# Altium footprint library all_kalex_Library.PcbLib: 234 footprints (part 14 of 15)
Each footprint in its own frame and in the unit in brackets; x right, y up, seen from the top. Pads: shape width x height; smd on the part's side, far side on the other; paste and mask are expansions set on the pad; w line width, h text height; cw(c..) or ccw(c..) is an arc to the next point about the centre after c.
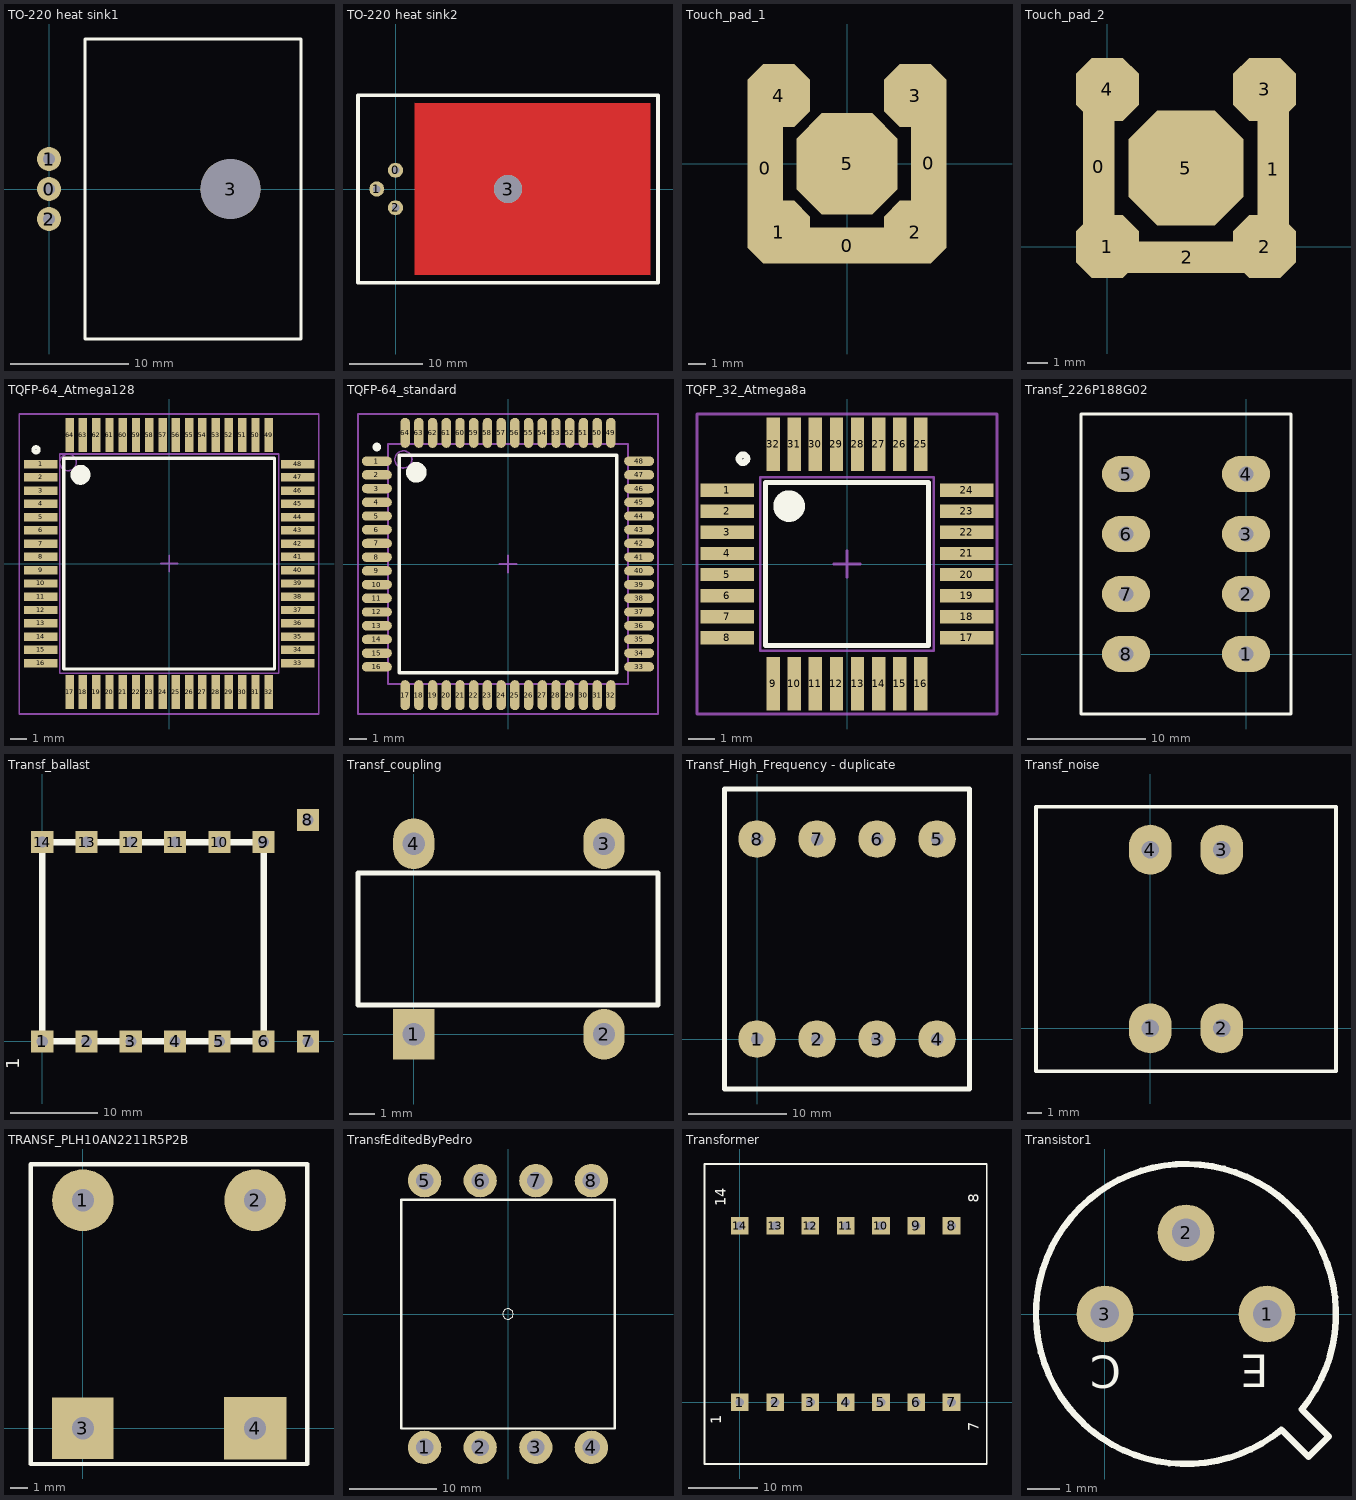
[diagram p13: the footprints below, top view; thin cyan lines are the x and y axes]

## TO-220 heat sink1 [mil]
pads (4):
  round 80 hole 40: 0(0,0) 1(0,100) 2(0,-100)
  round 200 hole 200 unplated: 3(605,0)
Top Overlay:
  lines w10: 120,-500 840,-500 840,500 120,500 120,-500

## TO-220 heat sink2 [mil]
pads (4):
  round 80 hole 40: 0(0,100) 1(-100,0) 2(0,-100)
  round 150 hole 150 unplated: 3(600,0)
Top Layer:
  region: 100,460 100,-460 1360,-460 1360,460
Top Overlay:
  lines w20: -200,-500 -200,500 1400,500 1400,-500 -200,-500

## Touch_pad_1 [mil]
pads (8):
  rect 80x304 smd: 0(-182,-10) 0(182,1)
  rect 304x80 smd: 0(1,-182)
  oct 140x140 smd: 1(-152,-152) 2(152,-152) 3(152,152) 4(-152,152)
  oct 226x226 smd: 5(0,0)

## Touch_pad_2 [mm]
pads (8):
  rect 1.5x6 smd: 0(-0.4,3.8) 1(7.9,3.7)
  oct 3x3 smd: 1(0,0) 2(7.5,0) 3(7.5,7.5) 4(0,7.5)
  rect 6x1.5 smd: 2(3.8,-0.5)
  oct 5.5x5.5 smd: 5(3.75,3.75)

## TQFP-64_Atmega128 [mil] "Thin QFP, 64-Leads, Body 14x14mm, Pitch 0.8mm, IPC Medium Density"
pads (64):
  rect 80x20 smd: 1(-305,236.22) 2(-305,204.72) 3(-305,173.23) 4(-305,141.73) 5(-305,110.24) 6(-305,78.74) 7(-305,47.24) 8(-305,15.75) 9(-305,-15.75) 10(-305,-47.24) 11(-305,-78.74) 12(-305,-110.24) 13(-305,-141.73) 14(-305,-173.23) 15(-305,-204.72) 16(-305,-236.22) 33(305,-236.22) 34(305,-204.72) 35(305,-173.23) 36(305,-141.73) 37(305,-110.24) 38(305,-78.74) 39(305,-47.24) 40(305,-15.75) 41(305,15.75) 42(305,47.24) 43(305,78.74) 44(305,110.24) 45(305,141.73) 46(305,173.23) 47(305,204.72) 48(305,236.22)
  rect 20x80 smd: 17(-236.22,-305) 18(-204.72,-305) 19(-173.23,-305) 20(-141.73,-305) 21(-110.24,-305) 22(-78.74,-305) 23(-47.24,-305) 24(-15.75,-305) 25(15.75,-305) 26(47.24,-305) 27(78.74,-305) 28(110.24,-305) 29(141.73,-305) 30(173.23,-305) 31(204.72,-305) 32(236.22,-305) 49(236.22,305) 50(204.72,305) 51(173.23,305) 52(141.73,305) 53(110.24,305) 54(78.74,305) 55(47.24,305) 56(15.75,305) 57(-15.75,305) 58(-47.24,305) 59(-78.74,305) 60(-110.24,305) 61(-141.73,305) 62(-173.23,305) 63(-204.72,305) 64(-236.22,305)
Top Overlay:
  circle w23.62: c-210.63,210.63 r11.81
  circle w9.84: c-316,270 r6
  lines w7.87: -250,-250 250,-250 250,250 -250,250 -250,-250
Mechanical 13:
  circle w3.94: c-240.16,240.16 r19.68
  lines w3.94: -260,-260 260,-260 260,260 -260,260 -260,-260
Mechanical 15:
  lines w3.94: -19.68,0 19.68,0 ; 0,-19.68 0,19.68 ; -356,-357 355,-357 355,355 -356,355 -356,-357
3D body: height 104.33, standoff 0, extent -255,-260 260,260

## TQFP-64_standard [mm] "Thin QFP, 64-Leads, Body 14x14mm, Pitch 0.8mm, IPC Medium Density"
pads (64):
  oval 1.75x0.55 smd: 1(-7.65,6) 2(-7.65,5.2) 3(-7.65,4.4) 4(-7.65,3.6) 5(-7.65,2.8) 6(-7.65,2) 7(-7.65,1.2) 8(-7.65,0.4) 9(-7.65,-0.4) 10(-7.65,-1.2) 11(-7.65,-2) 12(-7.65,-2.8) 13(-7.65,-3.6) 14(-7.65,-4.4) 15(-7.65,-5.2) 16(-7.65,-6) 33(7.65,-6) 34(7.65,-5.2) 35(7.65,-4.4) 36(7.65,-3.6) 37(7.65,-2.8) 38(7.65,-2) 39(7.65,-1.2) 40(7.65,-0.4) 41(7.65,0.4) 42(7.65,1.2) 43(7.65,2) 44(7.65,2.8) 45(7.65,3.6) 46(7.65,4.4) 47(7.65,5.2) 48(7.65,6)
  oval 0.55x1.75 smd: 17(-6,-7.65) 18(-5.2,-7.65) 19(-4.4,-7.65) 20(-3.6,-7.65) 21(-2.8,-7.65) 22(-2,-7.65) 23(-1.2,-7.65) 24(-0.4,-7.65) 25(0.4,-7.65) 26(1.2,-7.65) 27(2,-7.65) 28(2.8,-7.65) 29(3.6,-7.65) 30(4.4,-7.65) 31(5.2,-7.65) 32(6,-7.65) 49(6,7.65) 50(5.2,7.65) 51(4.4,7.65) 52(3.6,7.65) 53(2.8,7.65) 54(2,7.65) 55(1.2,7.65) 56(0.4,7.65) 57(-0.4,7.65) 58(-1.2,7.65) 59(-2,7.65) 60(-2.8,7.65) 61(-3.6,7.65) 62(-4.4,7.65) 63(-5.2,7.65) 64(-6,7.65)
Top Overlay:
  circle w0.25: c-7.65,6.825 r0.125
  circle w0.6: c-5.35,5.35 r0.3
  lines w0.2: -6.35,-6.35 -6.35,6.35 6.35,6.35 6.35,-6.35 -6.35,-6.35
Mechanical 13:
  circle w0.1: c-6.1,6.1 r0.5
  lines w0.1: -7,-7 -7,7 7,7 7,-7 -7,-7
Mechanical 15:
  lines w0.1: -0.5,0 0.5,0 ; 0,-0.5 0,0.5 ; -8.75,-8.75 -8.75,8.75 8.75,8.75 8.75,-8.75 -8.75,-8.75
3D body: height 2.65, standoff 0, extent -6.985,-6.985 6.985,6.985

## TQFP_32_Atmega8a [mil]
pads (32):
  rect 80x20 smd: 1(-179.02,110.24) 2(-179.02,78.74) 3(-179.02,47.24) 4(-179.02,15.75) 5(-179.02,-15.75) 6(-179.02,-47.24) 7(-179.02,-78.74) 8(-179.02,-110.24) 17(179.02,-110.24) 18(179.02,-78.74) 19(179.02,-47.24) 20(179.02,-15.75) 21(179.02,15.75) 22(179.02,47.24) 23(179.02,78.74) 24(179.02,110.24)
  rect 20x80 smd: 9(-110.24,-179.02) 10(-78.74,-179.02) 11(-47.24,-179.02) 12(-15.75,-179.02) 13(15.75,-179.02) 14(47.24,-179.02) 15(78.74,-179.02) 16(110.24,-179.02) 25(110.24,179.02) 26(78.74,179.02) 27(47.24,179.02) 28(15.75,179.02) 29(-15.75,179.02) 30(-47.24,179.02) 31(-78.74,179.02) 32(-110.24,179.02)
Top Overlay:
  circle w9.84: c-155.61,157.48 r6
  circle w23.62: c-86.61,86.61 r11.81
  lines w7.87: -122.05,-122.05 -122.05,122.05 122.05,122.05 122.05,-122.05 -122.05,-122.05
Mechanical 13:
  circle w3.94: c-86.61,86.61 r19.68
  lines w3.94: -129.92,-129.92 -129.92,129.92 129.92,129.92 129.92,-129.92 -129.92,-129.92
Mechanical 15:
  lines w3.94: -19.68,0 19.68,0 ; 0,-19.68 0,19.68 ; -224.41,-224.41 -224.41,224.41 224.41,224.41 224.41,-224.41 -224.41,-224.41
3D body: height 104.33, standoff 0, extent -122.05,-122.05 122.05,122.05

## Transf_226P188G02 [mil]
pads (8):
  oval 160x120 hole 50: 1(0,0) 2(0,200) 3(0,400) 4(0,600) 5(-400,600) 6(-400,400) 7(-400,200) 8(-400,0)
Top Overlay:
  lines w10: -550,-200 150,-200 150,800 -550,800 -550,-200
Bottom Overlay:
  text "1" at 100,-90 h60
  text "2" at 115,105 h60
  text "3" at 115,300 h60
  text "4" at 115,505 h60
  text "8" at -475,-120 h60
  text "7" at -475,90 h60
  text "6" at -475,305 h60
  text "5" at -470,495 h60

## Transf_ballast [mil]
pads (14):
  rect 100x100 hole 50: 1(0,0) 2(200,0) 3(400,0) 4(600,0) 5(800,0) 6(1000,0) 7(1200,0) 8(1200,1000) 9(1000,900) 10(800,900) 11(600,900) 12(400,900) 13(200,900) 14(0,900)
Top Overlay:
  lines w30: 0,0 0,900 1000,900 1000,0 0,0
  text "1" at -105,-125 h60

## Transf_coupling [mil]
pads (4):
  rect 65x80 hole 35: 1(0,0)
  oval 65x80 hole 35: 2(300,0) 3(300,300) 4(0,300)
Top Overlay:
  lines w7.87: -87.8,45.67 -87.8,254.33 385,254.33 385,45.67 -87.8,45.67

## Transf_High_Frequency - duplicate [mil]
pads (8):
  round 150 hole 50: 1(0,0) 2(240,0) 3(480,0) 4(720,0) 5(720,800) 6(480,800) 7(240,800) 8(0,800)
Top Overlay:
  lines w20: -130,-200 -130,1000 850,1000 850,-200 -130,-200

## Transf_noise [mil]
pads (4):
  oval 120x140 hole 50: 1(0,0) 2(200,0) 3(200,500) 4(0,500)
Top Overlay:
  lines w10: -320,-120 520,-120 520,620 -320,620 -320,-120

## TRANSF_PLH10AN2211R5P2B [mil]
pads (4):
  round 137.8 hole 50: 1(0,510) 2(385,510)
  rect 137.8x137.8 hole 50: 3(0,0)
  rect 140x140 hole 50: 4(385,0)
Top Overlay:
  lines w10: 502,590 -117,590 -117,-80 502,-80 502,591

## TransfEditedByPedro [mil] "6Pins1.2x0.25"
pads (8):
  round 150 hole 80: 1(-375,-600) 2(-125,-600) 3(125,-600) 4(375,-600) 5(-375,600) 6(-125,600) 7(125,600) 8(375,600)
Top Overlay:
  circle w3: c0,0 r23.26
  lines w10: -480,-515 480,-515 480,514 -480,514 -480,-515

## Transformer [mil]
pads (14):
  rect 100x100 hole 50: 1(0,0) 2(200,0) 3(400,0) 4(600,0) 5(800,0) 6(1000,0) 7(1200,0) 8(1200,1000) 9(1000,1000) 10(800,1000) 11(600,1000) 12(400,1000) 13(200,1000) 14(0,1000)
Top Overlay:
  lines w10: -200,-350 1400,-350 1400,1350 -200,1350 -200,-350
  text "14" at -80,1110 h60
  text "8" at 1355,1130 h60
  text "7" at 1355,-165 h60
  text "1" at -105,-125 h60

## Transistor1 [mil]
pads (3):
  round 70 hole 35: 1(200,0) 2(100,100) 3(0,0)
Top Overlay:
  lines w7.87: 217.71,-142.77 cw(c100,0) 242.77,-117.71 276.18,-151.12 251.12,-176.18 217.71,-142.77
  text "E" at 202.13,-50.56 h40
  text "C" at 19.83,-51.43 h40